# Altium footprint library Oscillator.PcbLib: 2 footprints
Each footprint in its own frame and in the unit in brackets; x right, y up, seen from the top. Pads: shape width x height; smd on the part's side, far side on the other; paste and mask are expansions set on the pad; w line width, h text height; cw(c..) or ccw(c..) is an arc to the next point about the centre after c.
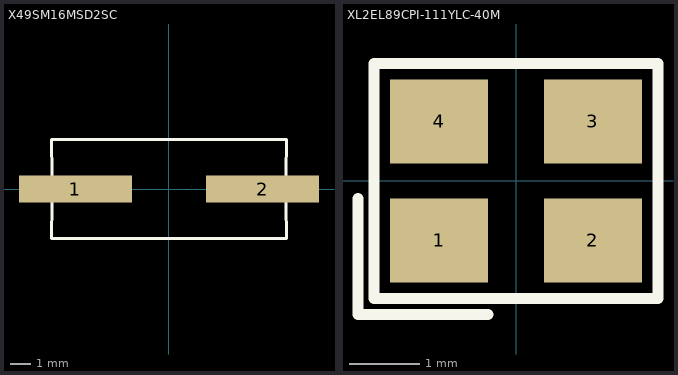
[diagram p0: the footprints below, top view; thin cyan lines are the x and y axes]

## X49SM16MSD2SC [mm]
pads (2):
  rect 5.5x1.3 smd paste+0 mask+0.051: 1(-4.553,0) 2(4.553,0)
Top Overlay:
  lines w0.152: -5.715,-2.413 5.715,-2.413 ; -5.715,-2.413 -5.7,-0.662 -5.715,-2.413 ; -5.715,-2.413 5.715,-2.413 ; -5.715,2.413 -5.7,0.662 -5.715,2.413 ; -5.715,2.413 5.715,2.413 ; -5.715,2.413 5.715,2.413 ; 5.715,-2.413 5.7,-0.662 5.715,-2.413 ; 5.715,2.413 5.7,0.662 5.715,2.413
Mechanical 15:
  lines w0.003: 1.079,0.127 1.08,0.127
3D body "Crystal 12Mhz.STEP": height 4.2, standoff 0, extent -6.35,-2.375 6.35,2.325

## XL2EL89CPI-111YLC-40M [mm] "CRYSTAL 40MHz 15pF SMD"
pads (4):
  rect 1.4x1.2 smd paste+0 mask+0.051: 1(-1.1,-0.85) 2(1.1,-0.85) 3(1.1,0.85) 4(-1.1,0.85)
Top Overlay:
  lines w0.152: -2.257,-0.25 -2.257,-1.907 -0.4,-1.907 ; -2.029,-1.679 2.029,-1.679 2.029,1.679 -2.029,1.679 -2.029,-1.679
Mechanical 15:
  circle w0.254: c-1.27,-0.889 r0.127
3D body "3225 SMD Crystal Oscillator.step": height 0.68, standoff -0.02, extent -1.6,-1.255 1.6,1.245